# Altium footprint library PCB_Lib.PcbLib: 296 footprints (part 13 of 19)
Each footprint in its own frame and in the unit in brackets; x right, y up, seen from the top. Pads: shape width x height; smd on the part's side, far side on the other; paste and mask are expansions set on the pad; w line width, h text height; cw(c..) or ccw(c..) is an arc to the next point about the centre after c.
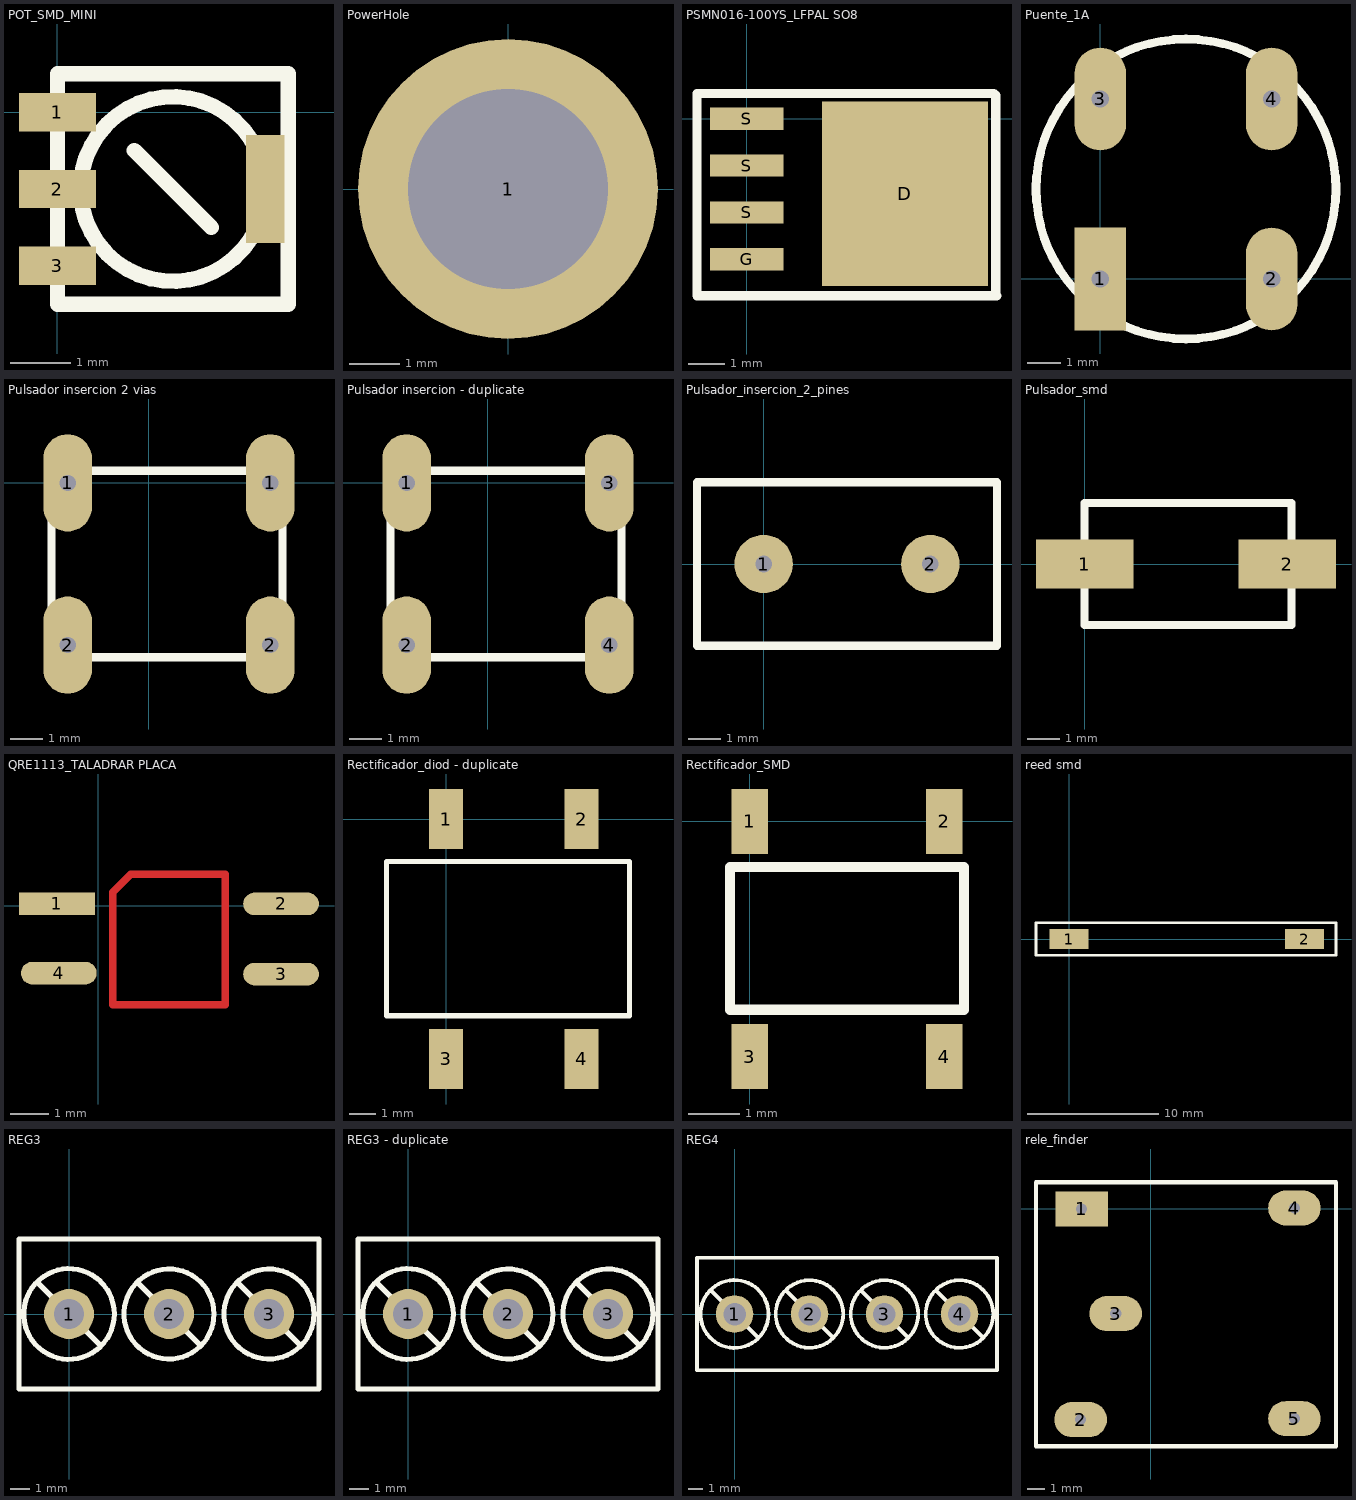
[diagram p12: the footprints below, top view; thin cyan lines are the x and y axes]

## POT_SMD_MINI [mil]
pads (4):
  rect 50x25 smd: 1(0,0) 2(0,-50) 3(0,-100)
  rect 25x70 smd: ""(135,-50)
Top Overlay:
  circle w10: c75,-50 r60
  lines w10: 50,-25 100,-75 ; 0,-125 0,25 150,25 150,-125 0,-125

## PowerHole [mm]
pads (1):
  round 6 hole 4: 1(0,0)

## PSMN016-100YS_LFPAL SO8 [mm]
pads (5):
  rect 4.5x5 smd: D(4.293,-2.032)
  rect 2x0.6 smd: G(0,-3.81) S(0,-2.54) S(0,-1.27) S(0,0)
Top Layer:
  lines w0.254: 6.172,-4.039 6.198,-4.064
Top Overlay:
  lines w0.254: -1.346,-4.801 -1.346,0.686 6.706,0.686 6.756,0.635 6.756,-4.775 6.782,-4.801 -1.346,-4.801

## Puente_1A [mil]
height 100
pads (4):
  rect 60x120 hole 20: 1(0,0)
  oval 60x120 hole 20: 2(200,0) 3(0,210) 4(200,210)
Top Overlay:
  circle w10: c100,105 r175

## Pulsador insercion 2 vias [mil]
height 100
pads (4):
  oval 60x120 hole 20: 1(-100,0) 1(150,0) 2(-100,-200) 2(150,-200)
Top Overlay:
  lines w10: -120,-215 -120,15 165,15 165,-215 -120,-215

## Pulsador insercion - duplicate [mil]
height 100
pads (4):
  oval 60x120 hole 20: 1(-100,0) 2(-100,-200) 3(150,0) 4(150,-200)
Top Overlay:
  lines w10: -120,-215 165,-215 165,15 -120,15 -120,-215

## Pulsador_insercion_2_pines [mil]
height 100
pads (2):
  round 70 hole 20: 1(0,0) 2(200,0)
Top Overlay:
  lines w10: -80,-98 -80,98 280,98 280,-98 -80,-98

## Pulsador_smd [mil]
pads (2):
  rect 120x60 smd: 1(0,0) 2(250,0)
Top Overlay:
  lines w10: 0,-75 255,-75 255,75 0,75 0,-75

## QRE1113_TALADRAR PLACA [mil]
pads (4):
  rect 78.74x23.62 smd: 1(-43,2)
  oval 78.74x23.62 smd: 2(190,2) 3(190,-71) 4(-41,-70)
Top Layer:
  lines w7.87: 15,-103 15,14 34,33 132,33 132,-103 15,-103

## Rectificador_diod - duplicate [mm]
pads (4):
  rect 1.3x2.3 smd: 1(0,0) 2(5.2,0) 3(0,-9.2) 4(5.2,-9.2)
Top Overlay:
  lines w0.2: -2.286,-7.544 7.036,-7.544 7.036,-1.626 -2.286,-1.626 -2.286,-7.544

## Rectificador_SMD [mil]
pads (4):
  rect 28x50 smd: 1(0,0) 2(150,0) 3(0,-181) 4(150,-181)
Top Overlay:
  lines w7.87: -15,-145 165,-145 165,-35 -15,-35 -15,-145

## reed smd [mm]
pads (2):
  rect 3x1.5 smd: 1(0,0) 2(18,0)
Top Overlay:
  lines w0.2: -2.525,-1.25 20.4,-1.25 20.4,1.25 8.375,1.25 -2.525,1.25 -2.525,-1.25

## REG3 [mil]
pads (3):
  round 100 hole 60: 1(0,0) 2(200,0) 3(400,0)
Top Overlay:
  circle w10: c200,0 r90
  circle w10: c0,0 r90.55
  circle w10: c400,0 r90
  lines w10: -60,60 0,0 60,-60 ; 140,60 200,0 260,-60 ; 340,60 400,0 460,-60 ; -100,-150 -100,150 500,150 500,-150 -100,-150

## REG3 - duplicate [mil]
pads (3):
  round 100 hole 60: 1(0,0) 2(200,0) 3(400,0)
Top Overlay:
  circle w10: c400,0 r90
  circle w10: c0,0 r90.55
  circle w10: c200,0 r90
  lines w10: -60,60 0,0 60,-60 ; 140,60 200,0 260,-60 ; 340,60 400,0 460,-60 ; -100,-150 500,-150 500,150 -100,150 -100,-150

## REG4 [mil]
pads (4):
  round 100 hole 60: 1(0,0) 2(200,0) 3(400,0) 4(600,0)
Top Overlay:
  circle w10: c200,0 r90
  circle w10: c0,0 r90.55
  circle w10: c400,0 r90
  circle w10: c600,0 r90
  lines w10: -60,60 0,0 60,-60 ; 140,60 200,0 260,-60 ; 340,60 400,0 460,-60 ; 540,60 600,0 660,-60 ; -100,-150 -100,150 700,150 700,-150 -100,-150

## rele_finder [mm]
pads (5):
  rect 3x2 hole 0.635: 1(-3.95,0)
  oval 3x2 hole 0.635: 2(-4,-12.025) 3(-2,-5.975) 4(8.2,0.05) 5(8.2,-11.975)
Top Overlay:
  lines w0.254: -6.55,-13.55 -6.55,1.525 10.575,1.525 10.575,-13.55 -6.55,-13.55